# Altium footprint library MasterLib.PcbLib: 80 footprints (part 1 of 5)
Each footprint in its own frame and in the unit in brackets; x right, y up, seen from the top. Pads: shape width x height; smd on the part's side, far side on the other; paste and mask are expansions set on the pad; w line width, h text height; cw(c..) or ccw(c..) is an arc to the next point about the centre after c.
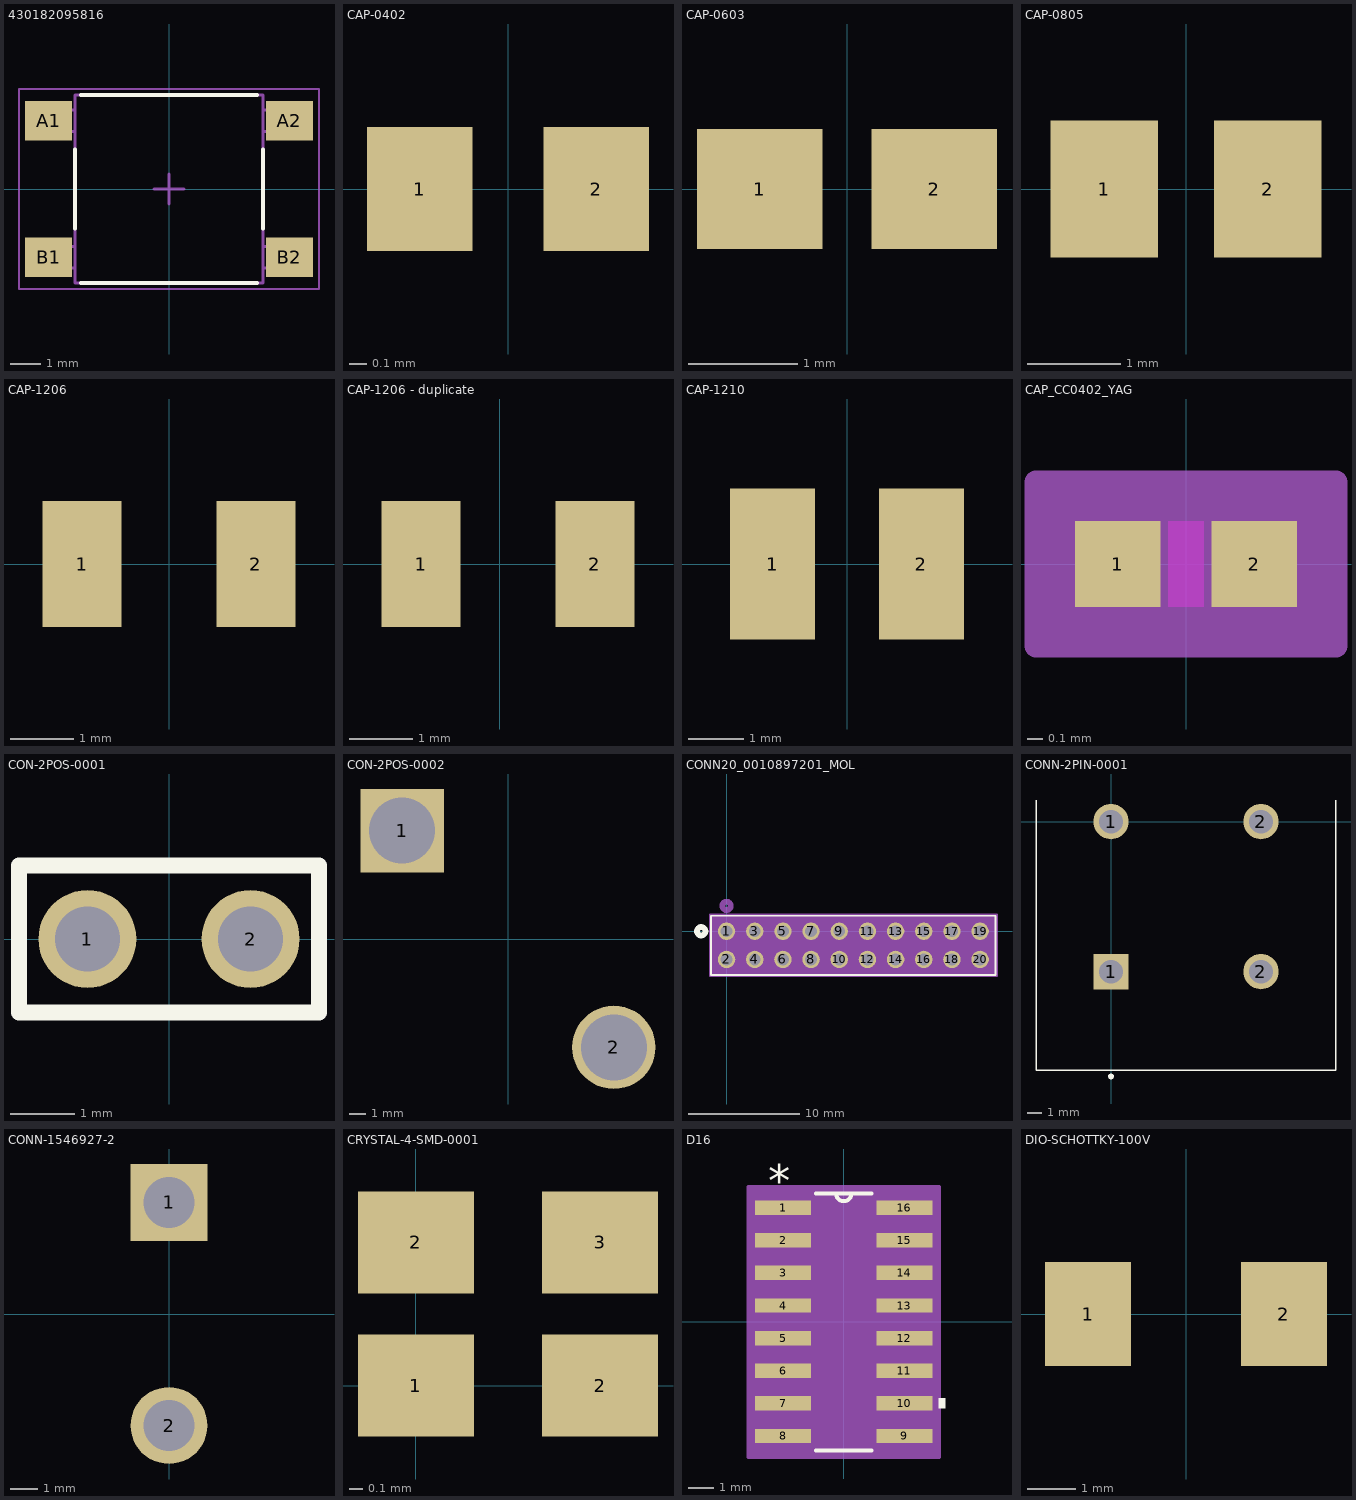
[diagram p0: the footprints below, top view; thin cyan lines are the x and y axes]

## 430182095816 [mm] "SMD Tact Switch, body 6x6mm"
height 9.5
pads (4):
  rect 1.55x1.3 smd: A1(-3.975,2.25) A2(3.975,2.25) B1(-3.975,-2.25) B2(3.975,-2.25)
Top Overlay:
  lines w0.127: -3.1,-1.3 -3.1,1.3 ; -2.9,-3.1 2.9,-3.1 ; -2.9,3.1 2.9,3.1 ; 3.1,-1.3 3.1,1.3
Top Courtyard:
  lines w0.05: -4.95,-3.3 4.95,-3.3 4.95,3.3 -4.95,3.3 -4.95,-3.3
Top Assembly:
  lines w0.1: -3.1,-2.6 -4.5,-2.6 -4.5,-1.9 -3.1,-1.9 ; -3.1,1.9 -4.5,1.9 -4.5,2.6 -3.1,2.6 ; 3.1,-2.6 4.5,-2.6 4.5,-1.9 3.1,-1.9 ; 3.1,1.9 4.5,1.9 4.5,2.6 3.1,2.6 ; -3.1,-3.1 3.1,-3.1 3.1,3.1 -3.1,3.1 -3.1,-3.1
Top Component Center:
  lines w0.1: -0.5,0 0.5,0 ; 0,-0.5 0,0.5
3D body "4301x20958x6.stp": height 9.5, standoff 0, extent -4.5,-3.1 4.5,3.1

## CAP-0402 [mm]
pads (2):
  rect 0.6x0.7 smd: 1(-0.5,0) 2(0.5,0)
3D body "GRM155R71H162JA01J.STEP": height 0.5, standoff 0, extent -0.5,-0.225 0.5,0.225

## CAP-0603 [mm]
pads (2):
  rect 1.15x1.1 smd: 1(-0.8,0) 2(0.8,0)
3D body "LD033A221JAB2A.STEP": height 0.8, standoff -0.01, extent -0.8,-0.45 0.8,0.45

## CAP-0805 [mm]
pads (2):
  rect 1.16x1.47 smd: 1(-0.88,0) 2(0.88,0)
3D body "0805YC103J4T2A.STEP": height 0.94, standoff 0, extent -1.005,-0.625 1.005,0.625

## CAP-1206 [mm]
pads (2):
  rect 1.25x2 smd: 1(-1.375,0) 2(1.375,0)
3D body "GRM31A5C2E272JWA1D.STEP": height 1.5, standoff 0, extent -1.6,-0.8 1.6,0.8

## CAP-1206 - duplicate [mm]
pads (2):
  rect 1.25x2 smd: 1(-1.248,0) 2(1.502,0)
3D body "GRM31A5C2E272JWA1D.STEP": height 1.5, standoff 0, extent -1.473,-0.8 1.727,0.8

## CAP-1210 [mm]
pads (2):
  rect 1.53x2.72 smd: 1(-1.341,0) 2(1.341,0)
3D body "GRM32EC72A106KE05L.STEP": height 2.7, standoff 0, extent -1.6,-1.25 1.6,1.25

## CAP_CC0402_YAG [mil]
pads (2):
  rect 22x22 smd paste+0 mask+0: 1(-17.5,0) 2(17.5,0)
Top Layer keep-out:
  region: -4.5,-9 -4.5,9 4.5,9 4.5,-9
Keep-Out Layer:
  region: -4.5,-11 -4.5,11 4.5,11 4.5,-11
Mechanical 13:
  lines w1: -20.5,-11 -20.5,11 ; -20.5,-11 20.5,-11 ; -20.5,-11 -6.5,-11 -6.5,11 -20.5,11 ; -20.5,-11 -20.5,11 ; -20.5,11 20.5,11 ; 20.5,-11 20.5,11 ; 20.5,-11 20.5,11 ; 20.5,-11 6.5,-11 6.5,11 20.5,11
Mechanical 15:
  region: 38.5,-21 -38.5,-21 -38.5,21 38.5,21
  lines w6: -38.5,-21 38.5,-21 38.5,21 -38.5,21 -38.5,-21
3D body "CAP_CC0402_YAG.step": height 22.01, standoff 0, extent -20.51,-10.98 20.51,10.98

## CON-2POS-0001 [mil]
pads (2):
  round 60 hole 40: 1(-50,0) 2(50,0)
Top Overlay:
  lines w10: 91.93,-45 91.93,45 ; 91.93,-45 91.93,-45 ; 91.93,-45 -91.93,-45 -91.93,45 91.93,45 ; 91.93,45 91.93,45
3D body "103321-2--3DModel-STEP-1.STEP": height 418, standoff -115, extent -92,-46 92,46

## CON-2POS-0002 [mm]
pads (2):
  rect 5x5 hole 3.96: 1(-6.35,6.5)
  round 5 hole 3.96: 2(6.35,-6.5)
3D body "389690002.stp": height 22.61, standoff -4.06, extent -13.97,-12.09 13.97,9.5

## CONN20_0010897201_MOL [mil]
pads (20):
  round 62 / inner round 60 / far side round 62 hole 42 paste-99999 mask+0: 1(0,0) 2(0,-100) 3(100,0) 4(100,-100) 5(200,0) 6(200,-100) 7(300,0) 8(300,-100) 9(400,0) 10(400,-100) 11(500,0) 12(500,-100) 13(600,0) 14(600,-100) 15(700,0) 16(700,-100) 17(800,0) 18(800,-100) 19(900,0) 20(900,-100)
Top Overlay:
  circle w20: c-90,0 r15
  lines w6: -55,-155 -55,55 955,55 955,-155 -55,-155
Bottom Overlay:
  circle w20: c-90,0 r15
Mechanical 13:
  circle w20: c0,90 r15
  lines w1: -50,-150 -50,50 950,50 950,-150 -50,-150
Mechanical 15:
  region: 960,60 -60,60 -60,-160 960,-160
  lines w6: -60,-160 960,-160 960,60 -60,60 -60,-160

## CONN-2PIN-0001 [mm]
pads (4):
  rect 2.4x2.4 hole 1.6: 1(0,-10.16)
  round 2.4 hole 1.6: 1(0,0) 2(10.16,-10.16) 2(10.16,0)
Top Overlay:
  lines w0.1: -5.08,1.46 -5.08,-16.84 15.24,-16.84 15.24,1.46
  lines w0.2: 0,-17.36 cw(c0,-17.26) 0,-17.16 cw(c0,-17.26) 0,-17.36

## CONN-1546927-2 [mm]
pads (2):
  rect 2.85x2.85 hole 1.9: 1(0,4.127)
  round 2.85 hole 1.9: 2(0,-4.127)
3D body "1546927-2.stp": height 14.99, standoff -5.08, extent -11.565,-8.852 4.494,8.852

## CRYSTAL-4-SMD-0001 [mm]
pads (4):
  rect 0.85x0.75 smd: 1(0,0) 2(0,1.05) 2(1.35,0) 3(1.35,1.05)
3D body "ECS-240-6-37B-7KM-TR.STEP": height 0.5, standoff 0, extent -0.325,-0.275 1.675,1.325

## D16 [mil]
pads (16):
  rect 86x22 smd paste-43 mask-43: 1(-93,175) 2(-93,125) 3(-93,75) 4(-93,25) 5(-93,-25) 6(-93,-75) 7(-93,-125) 8(-93,-175) 9(93,-175) 10(93,-125) 11(93,-75) 12(93,-25) 13(93,25) 14(93,75) 15(93,125) 16(93,175)
Top Overlay:
  region: 146,-117.5 156,-117.5 156,-132.5 146,-132.5
  lines w6: -42.89,-197 42.89,-197 ; -42.89,197 42.89,197 ; -12,197 ccw(c0,197) 12,197
  text "*" at -115.5,192 h50
Mechanical 13:
  lines w0: -12,197 ccw(c0,197) 12,197
  lines w1: -122,-185 -78.5,-185 -78.5,-165 -122,-165 -122,-185 ; -122,-135 -78.5,-135 -78.5,-115 -122,-115 -122,-135 ; -122,-85 -78.5,-85 -78.5,-65 -122,-65 -122,-85 ; -122,-35 -78.5,-35 -78.5,-15 -122,-15 -122,-35 ; -122,15 -78.5,15 -78.5,35 -122,35 -122,15 ; -122,65 -78.5,65 -78.5,85 -122,85 -122,65 ; -122,115 -78.5,115 -78.5,135 -122,135 -122,115 ; -122,165 -78.5,165 -78.5,185 -122,185 -122,165 ; -78.5,-197 -78.5,197 78.5,197 78.5,-197 -78.5,-197 ; 78.5,-185 122,-185 122,-165 78.5,-165 78.5,-185 ; 78.5,-135 122,-135 122,-115 78.5,-115 78.5,-135 ; 78.5,-85 122,-85 122,-65 78.5,-65 78.5,-85 ; 78.5,-35 122,-35 122,-15 78.5,-15 78.5,-35 ; 78.5,15 122,15 122,35 78.5,35 78.5,15 ; 78.5,65 122,65 122,85 78.5,85 78.5,65 ; 78.5,115 122,115 122,135 78.5,135 78.5,115 ; 78.5,165 122,165 122,185 78.5,185 78.5,165
  text "*" at -115.5,192 h50
Mechanical 15:
  region: 146,-207 -146,-207 -146,207 146,207
  lines w6: -146,-207 146,-207 146,207 -146,207 -146,-207
3D body "D16.step": height 69.09, standoff 0, extent -122.01,-197.01 122.01,197.01

## DIO-SCHOTTKY-100V [mm]
pads (2):
  rect 1.78x2.16 smd: 1(-2.025,0) 2(2.025,0)